# EAGLE library part CDCLVC1104 (library texas)
High-Performance Clock Buffer 3.3 V and 2.5 V LVCMOS
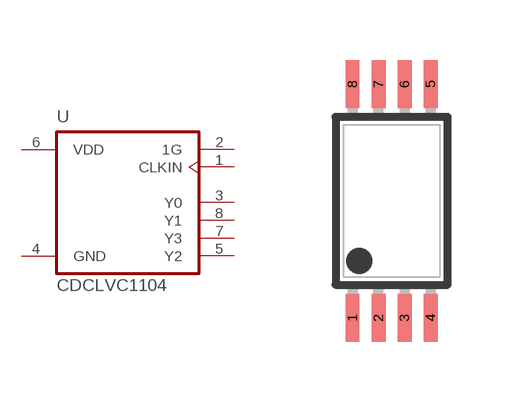
[diagram p40: symbol with the pads of TSSOP8; footprint TSSOP8]

Designator prefix U

## CDCLVC1104PW  [TSSOP8]
1  CLKIN  in
2  1G  in
3  Y0  out
4  GND  pwr
5  Y2  out
6  VDD  pwr
7  Y3  out
8  Y1  out

## Footprint TSSOP8 (pad centres in mm)
Thin Shrink Small Outline Plastic 8
smd 0.35 x 1.2: 1 -0.975,-2.925; 2 -0.325,-2.925; 3 0.325,-2.925; 4 0.975,-2.925; 5 0.975,2.925; 6 0.325,2.925; 7 -0.325,2.925; 8 -0.975,2.925